# EAGLE library part NJM4580 (library MDB_HOME_kap)
Dual, Precision JFET High Speed Operational Amplifier Source: http://www.analog.com/static/imported-files/data_sheets/OP249.pdf
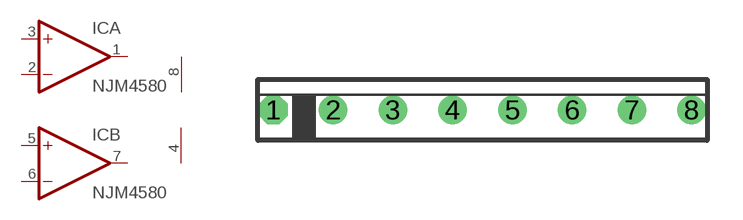
[diagram p23: symbol with the pads of SIP8; footprint SIP8]

Designator prefix IC; gates A=OPAMP B=OPAMP P=PWR+-

## NJM4580  [SIP8]
1  A:OUT  out
2  A:-IN  in
3  A:+IN  in
4  P:V-  pwr
5  B:+IN  in
6  B:-IN  in
7  B:OUT  out
8  P:V+  pwr

## Footprint SIP8 (pad centres in mm)
Single Inline Palstic Package 8 pol. Source: ROHM BA728.pdf
drill 0.7 pad 1.016 octagon: 1 -8.89,0
drill 0.7 pad 1.016: 2 -6.35,0; 3 -3.81,0; 4 -1.27,0; 5 1.27,0; 6 3.81,0; 7 6.35,0; 8 8.89,0